# Altium schematic symbol library Zener Diode 30V.SchLib: 1 symbol
Pins are listed as number, name and electrical type; pins without a type are passive.

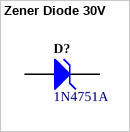
[diagram p0: symbol Zener Diode 30V]

## Zener Diode 30V
designator D?, comment 1N4751A
Zener Diode, 30V, 1W, 5%, -65 to 200 degC, 2-Pin DO-41, Body 2.72 x 5.2 mm, RoHS; Manufacturer: Fairchild Semiconductor; VZ (Max.) (V): 31.5; Test Current IZ (mA): 8.5; PD (W): 1; VZ (Min.) (V): 28.5; ZZ (Max) (ohm): 40; IR (uA): 5; ComponentLink2URL: http://www.fairchildsemi.com/ds/1N/1N4744A.pdf; ComponentLink2Description: Datasheet; Operating and Storage Temperature Range: -65 to 200 degC; RoHS: TRUE; PackageReference: DO-41-2; ComponentLink1URL: http://www.fairchildsemi.com/; PartNumber: 1N4751A; Tolerance: 5%; PackageVersion: Rev. 2; ComponentLink3URL: http://www.fairchildsemi.com/dwg/DO/DO41A.pdf; PackageDescription: 2-Pin Axial leaded, Body 2.72 x 5.2 mm, Lead Spread 25.4 mm; Mounting Technology: Through Hole; ComponentLink1Description: Manufacturer URL; DatasheetVersion: Rev. H3; ComponentLink3Description: Package Specification
footprint FAIR-DO-41-2_V (2-Leads, Axial leaded, Body 2.72x5.2mm, Pin Spacing 9mm)
pins: 1 A, 2 K